# EAGLE library part 693063010911 (library WR-CRD)
WR-CRD SD Card Connector Push & Pull with Card Detection 9 pins General Information Operating Temperature -25 °C up to +85 °C Gender Socket Type Push & Pull Electrical Properties Operating Temperature:-25 up to +85 °C Electrical Properties Working Voltage 100 V (AC) Withstanding Voltage 500 V (AC) Contact Resistance 100 mΩ Material Properties Insulator Material LCP Insulator Flammability Rating UL94 V-0 Insulator Color Black Contact Material Copper Alloy Contact Plating Selective Gold Contact Type Stamped Shielding Material Copper Alloy Shielding Plating Nickel (Ni) <https://www.we-online.com/components/media/o70346v209%20Family_WR-CRD_SD_Normal_693063010911_pf2.jpg> Details see: www.we-online.com/en/components/products/CRD_SD_PUSH_AND_PULL_CRD_DETETCION_9_PINS <www.we-online.com/catalog/CRD_SD_PUSH_AND_PULL_CRD_DETETCION_9_PINS/?utm_source=eagle_model&utm_medium=description_link&utm_campaign=eisos_eagle> Updated by Ella 2024-11-14 2024 (C) Würth Elektronik
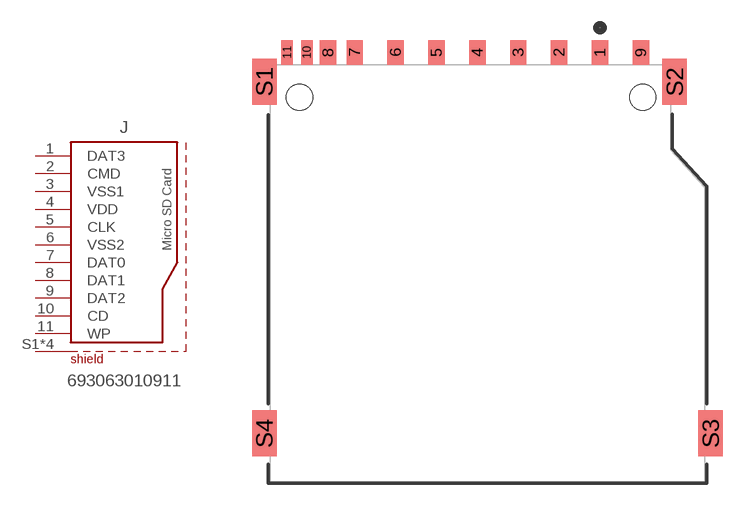
[diagram p12: symbol with the pads of 693063010911; footprint 693063010911]

Designator prefix J

## 693063010911 (DATASHEET-URL: https://www.we-online.com/redexpert/spec/693063010911?ae; GERDER: Socket; IR: 0.5A; MOUNT: SMT; PART-NUMBER: 693063010911; PINS: 9; TYPE: Push & Pull; VALUE: 693063010911; WORKING-VOLTAGE: 100V(AC))  [693063010911]
1  DAT3
2  CMD
3  VSS1
4  VDD
5  CLK
6  VSS2
7  DAT0
8  DAT1
9  DAT2
10  CD
11  WP
S1  SHIELD
S2  SHIELD
S3  SHIELD
S4  SHIELD

## Footprint 693063010911 (pad centres in mm)
WR-CRD SD Card Connector Push & Pull with Card Detection 9 pins
smd 1 x 1.5: 1 6.88,13.5; 2 4.38,13.5; 3 1.88,13.5; 4 -0.62,13.5; 5 -3.12,13.5; 6 -5.62,13.5; 7 -8.12,13.5; 8 -9.75,13.5; 9 9.38,13.5
smd 0.7 x 1.5: 10 -11.05,13.5; 11 -12.25,13.5
smd 1.5 x 2.8: S1 -13.65,11.7; S2 11.45,11.7; S3 13.65,-9.8; S4 -13.65,-9.8
hole 1.6 at -11.5,10.75
hole 1.6 at 9.5,10.75